# Altium schematic symbol library CYT2BL3_硬件_核心板元件库.SCHLIB: 27 symbols
Pins are listed as number, name and electrical type; pins without a type are passive.

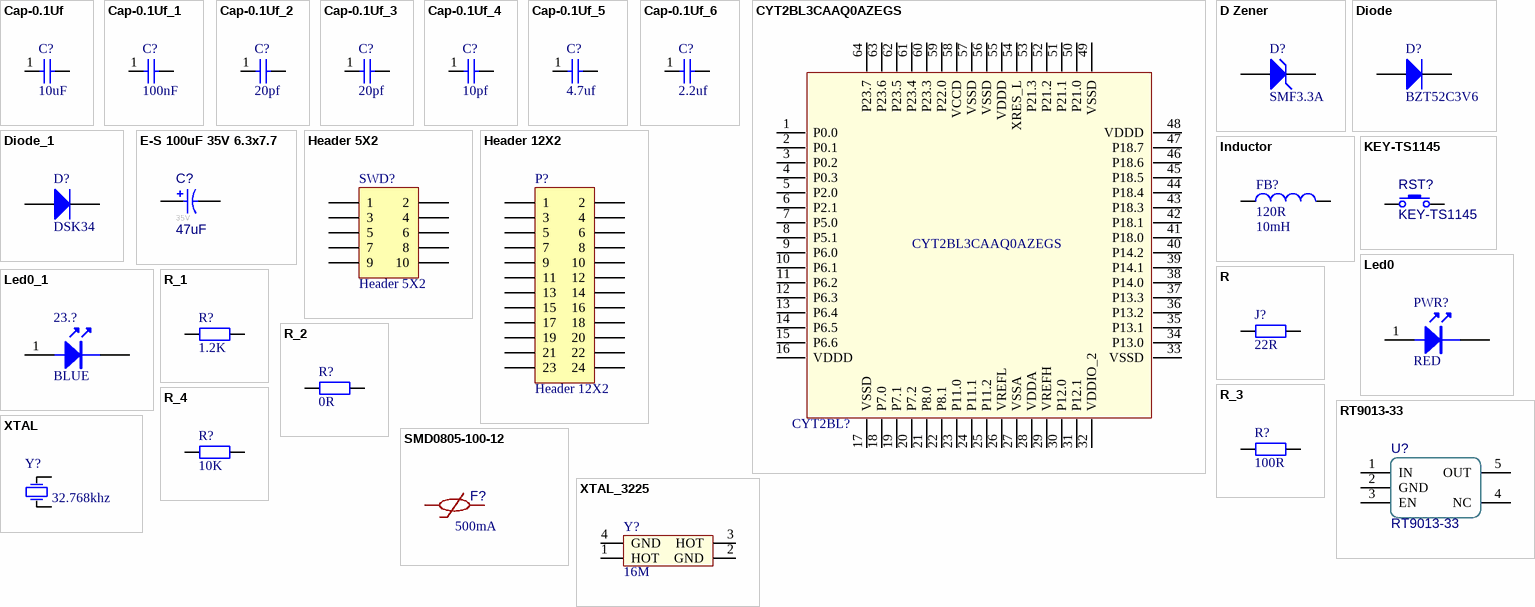
[diagram p0: symbols Cap-0.1Uf to XTAL_3225]

## Cap-0.1Uf
designator C?, comment value 10uF  (hidden comment: Cap)
footprint 0805_M
footprint 0805-1 (贴片带丝印)
footprint 0805C
footprint 0603C
footprint 0402C
footprint 0603C
footprint 0603C
footprint 0603C
pins: 1, 2

## Cap-0.1Uf_1
designator C?, comment value 100nF  (hidden comment: 0.1uf 0402C)
footprint 0805_M
footprint 0805-1 (贴片带丝印)
footprint 0805C
footprint 0603C
footprint 0402C
footprint 0603C
footprint 0402C
pins: 1, 2

## Cap-0.1Uf_2
designator C?, comment value 20pf  (hidden comment: 0402C)
footprint 0805_M
footprint 0805-1 (贴片带丝印)
footprint 0805C
footprint 0603C
footprint 0402C
footprint 0603C
footprint 0402C
pins: 1, 2

## Cap-0.1Uf_3
designator C?, comment value 20pf  (hidden comment: 10pf)
footprint 0805_M
footprint 0805-1 (贴片带丝印)
footprint 0805C
footprint 0603C
footprint 0402C
footprint 0603C
footprint 0402C
pins: 1, 2

## Cap-0.1Uf_4
designator C?, comment value 10pf  (hidden comment: Cap)
footprint 0805_M
footprint 0805-1 (贴片带丝印)
footprint 0805C
footprint 0603C
footprint 0402C
footprint 0603C
footprint 0402C
pins: 1, 2

## Cap-0.1Uf_5
designator C?, comment value 4.7uf  (hidden comment: 4.7uf 0402C)
footprint 0805_M
footprint 0805-1 (贴片带丝印)
footprint 0805C
footprint 0603C
footprint 0402C
footprint 0603C
footprint 0402C
pins: 1, 2

## Cap-0.1Uf_6
designator C?, comment value 2.2uf  (hidden comment: 10pf)
footprint 0805_M
footprint 0805-1 (贴片带丝印)
footprint 0805C
footprint 0603C
footprint 0402C
footprint 0603C
footprint 0402C
pins: 1, 2

## CYT2BL3CAAQ0AZEGS
designator CYT2BL?  (value not drawn)
footprint LQFP-64
pins: 1 P0.0, 2 P0.1, 3 P0.2, 4 P0.3, 5 P2.0, 6 P2.1, 7 P5.0, 8 P5.1, 9 P6.0, 10 P6.1, 11 P6.2, 12 P6.3, 13 P6.4, 14 P6.5, 15 P6.6, 16 VDDD, 17 VSSD, 18 P7.0, 19 P7.1, 20 P7.2, 21 P8.0, 22 P8.1, 23 P11.0, 24 P11.1, 25 P11.2, 26 VREFL, 27 VSSA, 28 VDDA, 29 VREFH, 30 P12.0, 31 P12.1, 32 VDDIO_2, 33 VSSD, 34 P13.0, 35 P13.1, 36 P13.2, 37 P13.3, 38 P14.0, 39 P14.1, 40 P14.2, 41 P18.0, 42 P18.1, 43 P18.3, 44 P18.4, 45 P18.5, 46 P18.6, 47 P18.7, 48 VDDD, 49 VSSD, 50 P21.0, 51 P21.1, 52 P21.2, 53 P21.3, 54 XRES_L, 55 VDDD, 56 VSSD, 57 VSSD, 58 VCCD, 59 P22.0, 60 P23.3, 61 P23.4, 62 P23.5, 63 P23.6, 64 P23.7

## D Zener
designator D?, comment SMF3.3A
Zener Diode; Published: 8-Jun-2000; LatestRevisionDate: 17-Jul-2002; LatestRevisionNote: Re-released for DXP Platform.; PackageReference: DIODE-0.7; Publisher: Altium Limited; PackageDescription: Diode, Thru-Hole; 2 Leads; 0.7 in Pin Spacing
footprint DIODE-0.7 (Diode, Thru-Hole; 2 Leads; 0.7 in Pin Spacing)
simulation model ZENER (Diode)
signal-integrity model D Zener
footprint SOD-123
footprint SOD-123L
pins: 1 A, 2 K

## Diode
designator D?, comment BZT52C3V6
Default Diode; Published: 8-Jun-2000; LatestRevisionDate: 17-Jul-2002; LatestRevisionNote: Re-released for DXP Platform.; PackageVersion: Sep-1996; PackageReference: SMC; Publisher: Altium Limited; PackageDescription: DO-214-AB/SMC; 2 C-Bend Leads; Body 7.9 x 5.9 mm, inc. leads (LxW); Code_JEDEC: DO-214-AB
footprint DIODE1206
footprint SOD-123
footprint SOD-123L
pins: 1 A, 2 K

## Diode_1
designator D?, comment DSK34
Default Diode; Published: 8-Jun-2000; LatestRevisionDate: 17-Jul-2002; LatestRevisionNote: Re-released for DXP Platform.; PackageVersion: Sep-1996; PackageReference: SMC; Publisher: Altium Limited; PackageDescription: DO-214-AB/SMC; 2 C-Bend Leads; Body 7.9 x 5.9 mm, inc. leads (LxW); Code_JEDEC: DO-214-AB
footprint DIODE1206
footprint SOD-123
footprint SOD-123L
pins: 1 A, 2 K

## E-S 100uF 35V 6.3x7.7
designator C?, comment value 47uF  Voltage: 35V  (hidden comment: 3528 47uf)
贴片电解电容; Type: 铝电解; Revision: V1.0
footprint CAP-E-S 6.3 (贴片 铝电解电容 6.3mm)
footprint CASE-B_3528
pins: 1, 2

## Header 5X2
designator SWD?
Header, 5-Pin, Dual row; LatestRevisionDate: 17-Jul-2002; LatestRevisionNote: Re-released for DXP Platform.; Publisher: Altium Limited
footprint HDR2X5 (Connector; Header; 5x2 Position)
signal-integrity model Connector
footprint HDR2X5N (Connector; Header; 5x2 Position)
pins: 1, 2, 3, 4, 5, 6, 7, 8, 9, 10

## Header 12X2
designator P?
Header, 12-Pin, Dual row; LatestRevisionDate: 17-Jul-2002; LatestRevisionNote: Re-released for DXP Platform.; Publisher: Altium Limited
footprint HDR2X12 (Connector; Header; 12x2 Position)
signal-integrity model Connector
footprint HDR2X12N (Connector; Header; 12x2 Position)
pins: 1, 2, 3, 4, 5, 6, 7, 8, 9, 10, 11, 12, 13, 14, 15, 16, 17, 18, 19, 20, 21, 22, 23, 24

## Inductor
designator FB?, comment 120R  value 10mH
Inductor; Code_IEC: 1005; Published: 8-Jun-2000; LatestRevisionDate: 29-May-2009; LatestRevisionNote: IPC-7351 Footprint Added.; PackageReference: 0402-A; Publisher: Altium Limited; PackageDescription: Chip Inductor; Code_JEITA: 0402
footprint 0402-A (Chip Inductor, Body 1.0x0.5mm, IPC High Density)
footprint INDC1608L (Chip Inductor, Body 1.6x0.8mm, IPC High Density)
footprint 2029 (Chip Inductor, Body 2.0x1.2mm, IPC High Density)
footprint 0603 (Chip Inductor, Body 0.6x0.3mm, IPC High Density)
footprint INDC3216 (Chip Inductor, Body 3.2x1.6mm, IPC High Density)
footprint INDC4532 (Chip Inductor, Body 4.5x3.2mm, IPC High Density)
simulation model INDUCTOR (Inductor)
signal-integrity model Inductor
footprint L0402
pins: 1, 2

## KEY-TS1145
designator RST?
3x4x2.5 4脚按键 贴片 垂直按压; Revision: V1.0; Value: KEY-TS1145
footprint TS1145-B-A (3x4x2.5 4脚贴片按键 包脚 160gf)
footprint TS1145-C-A (3x4x2.5 4脚贴片按键 包脚 260gf)
pins: 1, 2

## Led0
designator PWR?, comment RED
footprint LED0805
footprint Model Name (Footprint not found)
footprint LED0805
footprint LED0805P
footprint LED_0805C (贴片二极管)
footprint LED0603
footprint LED0603
footprint 0603Bead
footprint Led0805
footprint LED0603
pins: 1, 2

## Led0_1
designator 23.?, comment BLUE
footprint LED0805
footprint Model Name (Footprint not found)
footprint LED0805
footprint LED0805P
footprint LED_0805C (贴片二极管)
footprint LED0603
footprint LED0603
footprint 0603Bead
footprint Led0805
footprint LED0603
pins: 1, 2

## R
designator J?, comment 22R
贴片电阻; 版权归属: 源创客; BOM名称: 贴片电阻; 学习资源: www.ooocke.com
footprint R 0201 (1/20W贴片电阻)
footprint R 0201-HP (1/20W高精度贴片电阻)
footprint R 0402 (1/16W贴片电阻)
footprint R 0402-HP (1/16W高精度贴片电阻)
footprint R 0603 (1/10W贴片电阻)
footprint R 0603-HP (1/10W高精度贴片电阻)
footprint R 0805 (1/8W贴片电阻)
footprint R 0805-HP (1/8W高精度贴片电阻)
footprint R 1206 (1/4W贴片电阻)
footprint R 1206-HP (1/4W高精度贴片电阻)
footprint R 1210 (1/3W贴片电阻)
footprint R 1210-HP (1/3W高精度贴片电阻)
footprint R 1812 (1/2W贴片电阻)
footprint R 1812-HP (1/2W高精度贴片电阻)
footprint R 2010 (3/4W贴片电阻)
footprint R 2010-HP (3/4W高精度贴片电阻)
footprint R 2512 (1W贴片电阻)
footprint R 2512-HP (1W高精度贴片电阻)
footprint 0402R
footprint 0603R
footprint 0402R
pins: 1, 2

## R_1
designator R?, comment 1.2K
贴片电阻; 版权归属: 源创客; BOM名称: 贴片电阻; 学习资源: www.ooocke.com
footprint R 0201 (1/20W贴片电阻)
footprint R 0201-HP (1/20W高精度贴片电阻)
footprint R 0402 (1/16W贴片电阻)
footprint R 0402-HP (1/16W高精度贴片电阻)
footprint R 0603 (1/10W贴片电阻)
footprint R 0603-HP (1/10W高精度贴片电阻)
footprint R 0805 (1/8W贴片电阻)
footprint R 0805-HP (1/8W高精度贴片电阻)
footprint R 1206 (1/4W贴片电阻)
footprint R 1206-HP (1/4W高精度贴片电阻)
footprint R 1210 (1/3W贴片电阻)
footprint R 1210-HP (1/3W高精度贴片电阻)
footprint R 1812 (1/2W贴片电阻)
footprint R 1812-HP (1/2W高精度贴片电阻)
footprint R 2010 (3/4W贴片电阻)
footprint R 2010-HP (3/4W高精度贴片电阻)
footprint R 2512 (1W贴片电阻)
footprint R 2512-HP (1W高精度贴片电阻)
footprint 0402R
footprint 0603R
footprint 0402R
pins: 1, 2

## R_2
designator R?, comment 0R
贴片电阻; 版权归属: 源创客; BOM名称: 贴片电阻; 学习资源: www.ooocke.com
footprint R 0201 (1/20W贴片电阻)
footprint R 0201-HP (1/20W高精度贴片电阻)
footprint R 0402 (1/16W贴片电阻)
footprint R 0402-HP (1/16W高精度贴片电阻)
footprint R 0603 (1/10W贴片电阻)
footprint R 0603-HP (1/10W高精度贴片电阻)
footprint R 0805 (1/8W贴片电阻)
footprint R 0805-HP (1/8W高精度贴片电阻)
footprint R 1206 (1/4W贴片电阻)
footprint R 1206-HP (1/4W高精度贴片电阻)
footprint R 1210 (1/3W贴片电阻)
footprint R 1210-HP (1/3W高精度贴片电阻)
footprint R 1812 (1/2W贴片电阻)
footprint R 1812-HP (1/2W高精度贴片电阻)
footprint R 2010 (3/4W贴片电阻)
footprint R 2010-HP (3/4W高精度贴片电阻)
footprint R 2512 (1W贴片电阻)
footprint R 2512-HP (1W高精度贴片电阻)
footprint 0402R
footprint 0603R
footprint 0402R
pins: 1, 2

## R_3
designator R?, comment 100R
贴片电阻; 版权归属: 源创客; BOM名称: 贴片电阻; 学习资源: www.ooocke.com
footprint R 0201 (1/20W贴片电阻)
footprint R 0201-HP (1/20W高精度贴片电阻)
footprint R 0402 (1/16W贴片电阻)
footprint R 0402-HP (1/16W高精度贴片电阻)
footprint R 0603 (1/10W贴片电阻)
footprint R 0603-HP (1/10W高精度贴片电阻)
footprint R 0805 (1/8W贴片电阻)
footprint R 0805-HP (1/8W高精度贴片电阻)
footprint R 1206 (1/4W贴片电阻)
footprint R 1206-HP (1/4W高精度贴片电阻)
footprint R 1210 (1/3W贴片电阻)
footprint R 1210-HP (1/3W高精度贴片电阻)
footprint R 1812 (1/2W贴片电阻)
footprint R 1812-HP (1/2W高精度贴片电阻)
footprint R 2010 (3/4W贴片电阻)
footprint R 2010-HP (3/4W高精度贴片电阻)
footprint R 2512 (1W贴片电阻)
footprint R 2512-HP (1W高精度贴片电阻)
footprint 0402R
footprint 0603R
footprint 0402R
pins: 1, 2

## R_4
designator R?, comment 10K
贴片电阻; 版权归属: 源创客; BOM名称: 贴片电阻; 学习资源: www.ooocke.com
footprint R 0201 (1/20W贴片电阻)
footprint R 0201-HP (1/20W高精度贴片电阻)
footprint R 0402 (1/16W贴片电阻)
footprint R 0402-HP (1/16W高精度贴片电阻)
footprint R 0603 (1/10W贴片电阻)
footprint R 0603-HP (1/10W高精度贴片电阻)
footprint R 0805 (1/8W贴片电阻)
footprint R 0805-HP (1/8W高精度贴片电阻)
footprint R 1206 (1/4W贴片电阻)
footprint R 1206-HP (1/4W高精度贴片电阻)
footprint R 1210 (1/3W贴片电阻)
footprint R 1210-HP (1/3W高精度贴片电阻)
footprint R 1812 (1/2W贴片电阻)
footprint R 1812-HP (1/2W高精度贴片电阻)
footprint R 2010 (3/4W贴片电阻)
footprint R 2010-HP (3/4W高精度贴片电阻)
footprint R 2512 (1W贴片电阻)
footprint R 2512-HP (1W高精度贴片电阻)
footprint 0402R
footprint 0603R
footprint 0402R
pins: 1, 2

## RT9013-33
designator U?
3.3V 500mA SOT-23-5 LDO
footprint SOT-23-5 (SOT23, 5-Leads, Body 2.92x2.79mm, Pitch 0.95mm, IPC Medium Density)
footprint SOT23-5
pins: 1 IN, 2 GND, 3 EN, 4 NC, 5 OUT

## SMD0805-100-12
designator F?
Symbol: SMD0805-100-12
footprint R0805
pins: 1, 2
text: 500mA

## XTAL
designator Y?  value 32.768khz  (hidden comment: XTAL)
晶振; Published: 8-Jun-2000; LatestRevisionDate: 17-Jul-2002; LatestRevisionNote: Re-released for DXP Platform.; PackageReference: R38; Publisher: Altium Limited
footprint X-HC49U (插件晶振)
footprint X-SM49
footprint XTAL_8M
footprint XTAL_8M_3D
footprint 无源坐贴两脚晶振
footprint XTAL SMD
footprint XTAL SMD
footprint OSC-SMD_L3.2-W1.5
pins: 1 OSC1, 2 OSC2

## XTAL_3225
designator Y?, comment 16M
3225贴片无源晶振
footprint XTAL3225 (3.2mm*2.5mm)
footprint SMD-3225_4P
footprint XTAL_3225
pins: 1 HOT, 2 GND, 3 HOT, 4 GND